# Altium schematic symbol library ChipWhisperer_AltiumLib.SchLib: 2 symbols
Pins are listed as number, name and electrical type; pins without a type are passive.

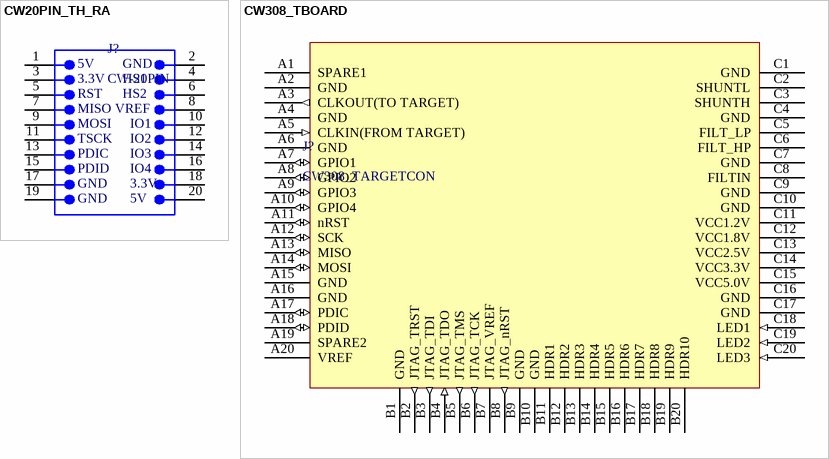
[diagram p0: symbols CW20PIN_TH_RA to CW308_TBOARD]

## CW20PIN_TH_RA
designator J?, comment CW-20PIN
ChipWhisperer 20-Pin Header, Through-Hole, R/A
pins: 1, 2, 3, 4, 5, 6, 7, 8, 9, 10, 11, 12, 13, 14, 15, 16, 17, 18, 19, 20
text: 5V; GND; 3.3V; HS1; RST; HS2; MISO; VREF; MOSI; IO1; TSCK; IO2; PDIC; IO3; PDID; IO4

## CW308_TBOARD
designator J?, comment CW308_TARGETCON
CW308 "Standard" Target Board Connector
footprint CW308_TBOARD_CONN
pins: A1 SPARE1, A2 GND, A3 CLKOUT(TO TARGET) (out), A4 GND, A5 CLKIN(FROM TARGET) (in), A6 GND (power), A7 GPIO1 (io), A8 GPIO2 (io), A9 GPIO3 (io), A10 GPIO4 (io), A11 nRST (io), A12 SCK (io), A13 MISO (io), A14 MOSI (io), A15 GND, A16 GND, A17 PDIC (io), A18 PDID (io), A19 SPARE2, A20 VREF (hiz), B1 GND, B2 JTAG_TRST (out), B3 JTAG_TDI (out), B4 JTAG_TDO (in), B5 JTAG_TMS (out), B6 JTAG_TCK (out), B7 JTAG_VREF (hiz), B8 JTAG_nRST (out), B9 GND, B10 GND, B11 HDR1, B12 HDR2, B13 HDR3, B14 HDR4, B15 HDR5, B16 HDR6, B17 HDR7, B18 HDR8, B19 HDR9, B20 HDR10, C1 GND (power), C2 SHUNTL, C3 SHUNTH, C4 GND (power), C5 FILT_LP, C6 FILT_HP, C7 GND (power), C8 FILTIN, C9 GND (power), C10 GND (power), C11 VCC1.2V (power), C12 VCC1.8V (power), C13 VCC2.5V (power), C14 VCC3.3V (power), C15 VCC5.0V (power), C16 GND (power), C17 GND (power), C18 LED1 (in), C19 LED2 (in), C20 LED3 (in)